# Altium footprint library PcbLib1.PcbLib: 264 footprints (part 17 of 17)
Each footprint in its own frame and in the unit in brackets; x right, y up, seen from the top. Pads: shape width x height; smd on the part's side, far side on the other; paste and mask are expansions set on the pad; w line width, h text height; cw(c..) or ccw(c..) is an arc to the next point about the centre after c.
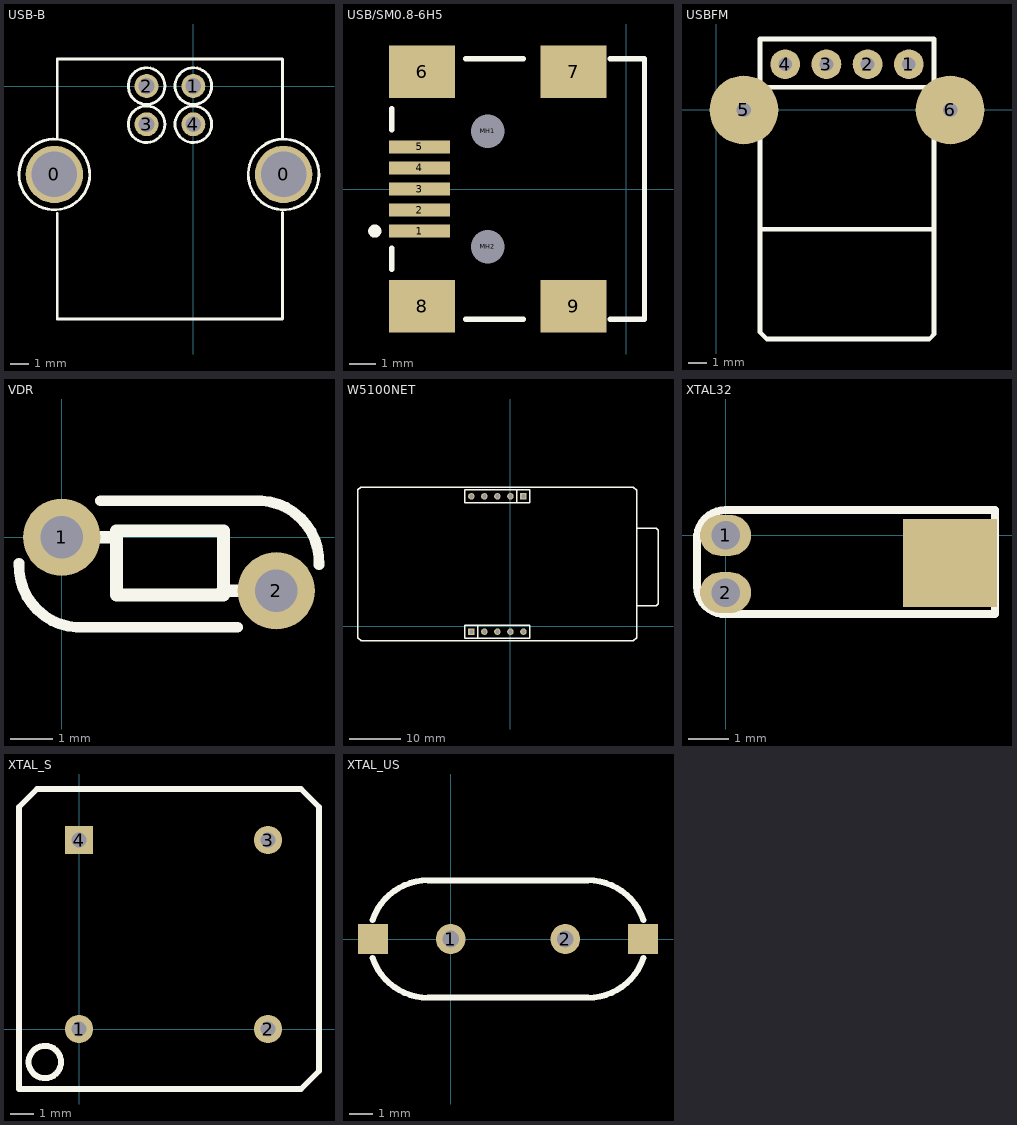
[diagram p16: the footprints below, top view; thin cyan lines are the x and y axes]

## USB-B [mil]
pads (6):
  round 120 hole 95: 0(-291,-185) 0(189,-185)
  round 50 hole 33: 1(0,0) 2(-98,0) 3(-98,-80) 4(0,-80)
Top Overlay:
  circle w6: c-98,0 r38.3
  circle w6: c-98,-80 r38.3
  circle w6: c0,0 r38.3
  circle w6: c0,-80 r38.3
  lines w6: -365.04,-185 ccw(c-291,-185) -365,-182.5 ; -285,-266.5 -285,-488 187,-488 187,-264.5 ; -285,-108.5 -285,57 187,57 187,-110.5 ; 114.96,-185 ccw(c189,-185) 115,-182.5

## USB/SM0.8-6H5 [mm]
height 1
pads (11):
  rect 2.3x0.5 smd: 1(-7.85,-1.6) 2(-7.85,-0.8) 3(-7.85,0) 4(-7.85,0.8) 5(-7.85,1.6)
  rect 2.5x2 smd: 6(-7.75,4.45) 7(-1.996,4.45) 8(-7.75,-4.45) 9(-1.996,-4.45)
  round 0.6 hole 1.27 unplated: MH1(-5.25,2.2) MH2(-5.25,-2.2)
Top Overlay:
  circle w0.25: c-9.55,-1.6 r0.125
  lines w0.2: -8.9,-3.05 -8.9,-2.25 ; -8.9,2.25 -8.9,3.05 ; -6.1,-4.95 -3.9,-4.95 ; -6.1,4.95 -3.9,4.95 ; -0.6,-4.95 0.7,-4.95 0.7,4.95 -0.6,4.95

## USBFM [mil] "USBFM"
height 196.85
pads (6):
  round 65 hole 30: 1(420,100) 2(330,100) 3(240,100) 4(150,100)
  round 150 hole 31.5: 5(60,0) 6(510,0)
Top Overlay:
  lines w10: 95,-260 475,-260 ; 95,50 475,50 ; 95,-485 110,-500 465,-500 475,-490 475,-195 475,155 95,155 95,-195 95,-485

## VDR [mil] "PIN:5.08;SIZE:7*3;"
height 118.11
pads (2):
  round 72 hole 40: 1(0,0) 2(200,-50)
Top Overlay:
  lines w10: -39.86,-24.34 ccw(c17.09,-27.07) 14,-84 164,-84 ; 36,34 186,34 cw(c182.91,-22.93) 239.86,-25.66
  lines w12: 0,0 50,0 ; 150,-50 200,-50 ; 51,-54 51,6 151,6 151,-24 151,-54 51,-54

## W5100NET [mil] "NET_FOOT"
pads (10):
  rect 50x50 hole 32: 1(101,1000) 6(-299,-40)
  round 50 hole 32: 2(1,1000) 3(-99,1000) 4(-199,1000) 5(-299,1000) 7(-199,-40) 8(-99,-40) 9(1,-40) 10(101,-40)
Top Overlay:
  lines w10: -1020,1070 945,1070 970,1045 970,-85 945,-110 -1145,-110 -1170,-85 -1170,1050 -1150,1070 -530,1070 ; -249,-90 -249,10 ; 51,950 51,1050 ; 970,160 1120,160 1135,175 1135,740 1120,755 975,755 970,750 ; -349,-90 -349,10 151,10 151,-90 -349,-90 ; -349,950 151,950 151,1050 -349,1050 -349,950

## XTAL32 [mil]
pads (3):
  oval 50x40 hole 28: 1(0,0) 2(0,-56)
  rect 92.13x86 smd: ""(220,-27)
Top Overlay:
  lines w8: -28,-50 ccw(c-0.5,-49.5) 0,-77 264,-77 264,25 0,25 ccw(c0.5,-3.5) -28,-4 -28,-50

## XTAL_S [mm] "XTAL_OSC"
height 3
pads (4):
  round 1.2 hole 0.635: 1(0,0) 2(8.001,0) 3(8.001,8.001)
  rect 1.2x1.2 hole 0.635: 4(0,8.001)
Top Overlay:
  circle w0.254: c-1.446,-1.397 r0.684
  lines w0.254: -2.54,-2.54 9.398,-2.54 10.16,-1.778 10.16,9.398 9.398,10.16 -1.778,10.16 -2.54,9.398 -2.54,8.509 -2.54,-2.54

## XTAL_US [mil]
pads (4):
  round 50 hole 28: 1(0,0) 2(192.13,0)
  rect 50x50 smd: ""(-130.32,0) ""(322.44,0)
Top Overlay:
  lines w10: -130.92,-31.85 ccw(c-37.79,0) -37.79,-98.42 ; -130.92,31.85 cw(c-37.79,0) -37.79,98.43 ; -38,98.42 229.92,98.43 cw(c229.92,0) 323.05,31.85 ; -37.8,-98.43 229.92,-98.42 ccw(c229.92,0) 323.05,-31.85